# Altium schematic symbol library SCH - DRIVER - LED - ST STLD40DPUR.SCHLIB: 1 symbol
Pins are listed as number, name and electrical type; pins without a type are passive.

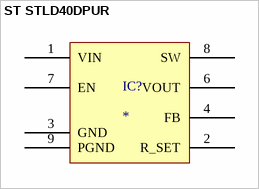
[diagram p0: symbol ST STLD40DPUR]

## ST STLD40DPUR
designator IC?
pins: 1 VIN, 2 R_SET, 3 GND, 4 FB, 6 VOUT, 7 EN, 8 SW, 9 PGND